# Altium footprint library uControllerTemplate2021.PcbLib: 22 footprints (part 1 of 2)
Each footprint in its own frame and in the unit in brackets; x right, y up, seen from the top. Pads: shape width x height; smd on the part's side, far side on the other; paste and mask are expansions set on the pad; w line width, h text height; cw(c..) or ccw(c..) is an arc to the next point about the centre after c.
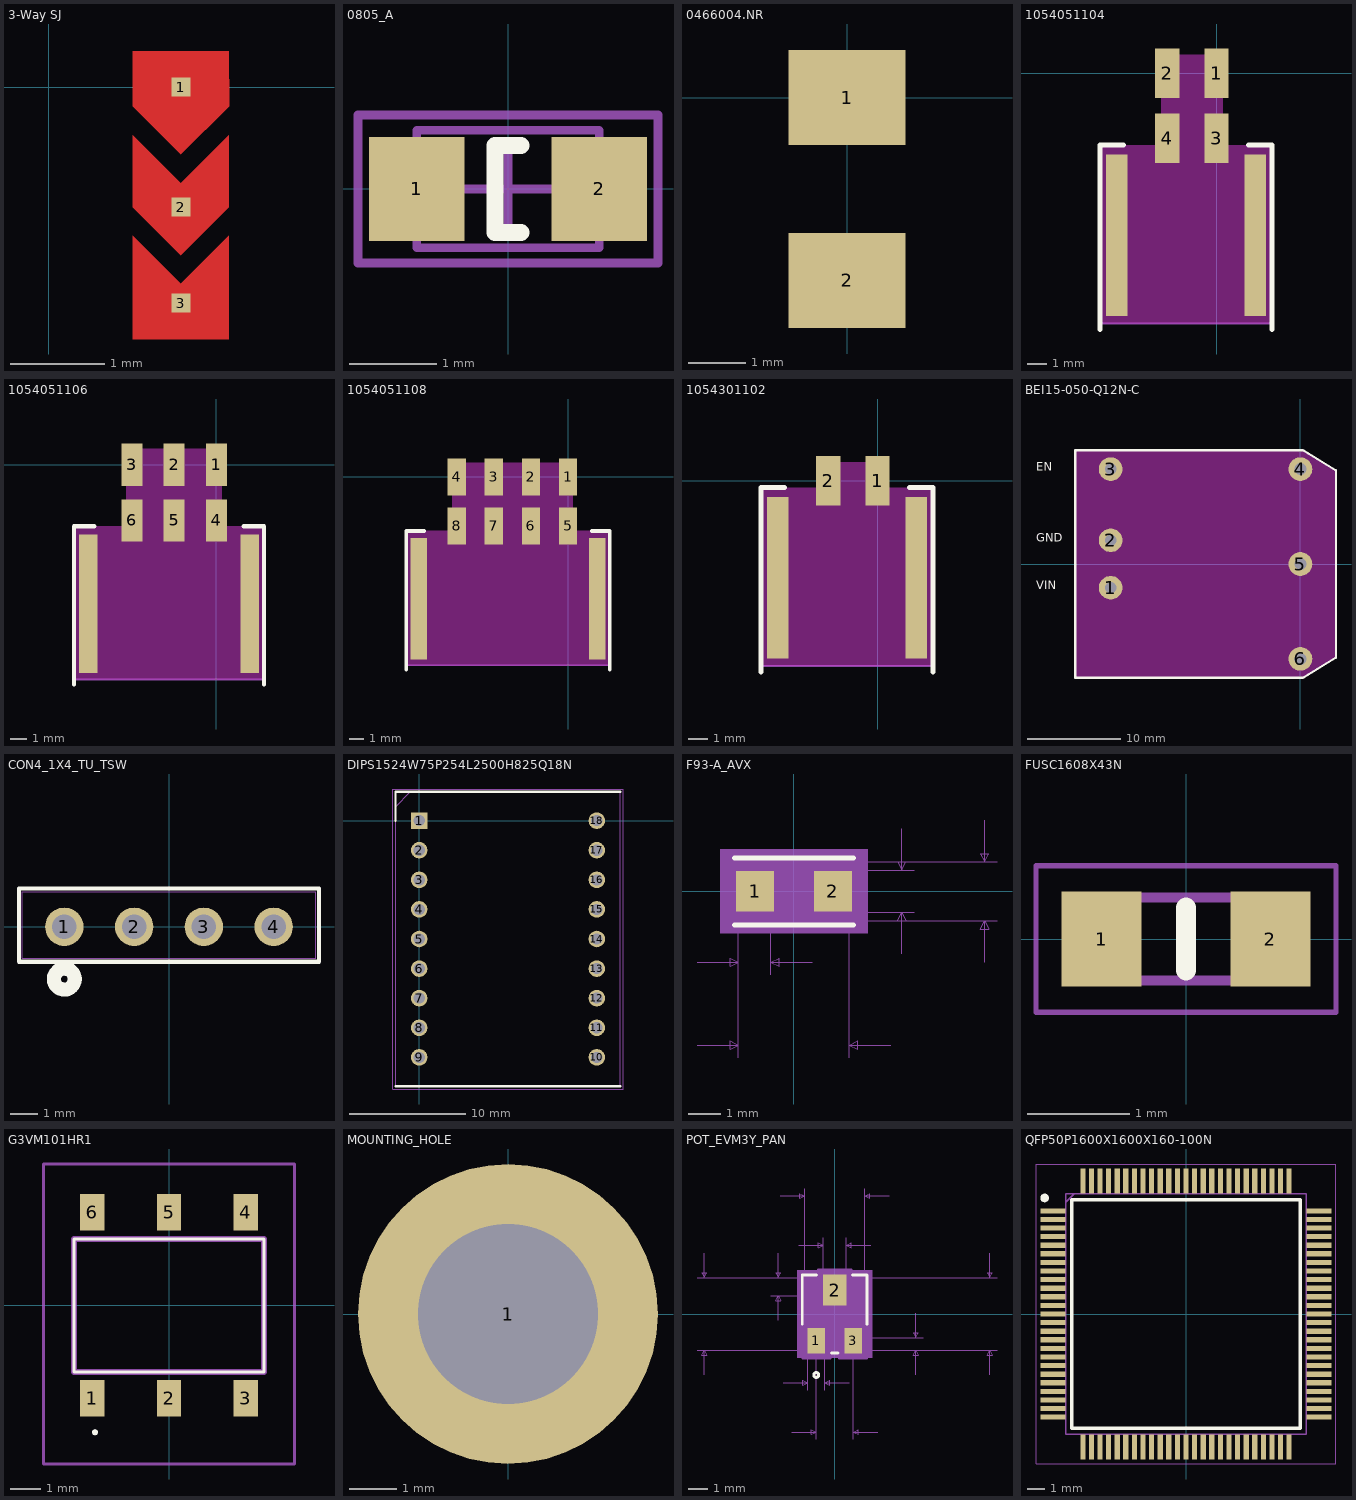
[diagram p0: the footprints below, top view; thin cyan lines are the x and y axes]

## 3-Way SJ [mm]
pads (3):
  rect 0.2x0.2 smd mask+0: 1(1.397,0) 2(1.397,-1.27) 3(1.397,-2.286)
Top Layer:
  region: 0.889,-1.575 0.889,-2.667 1.905,-2.667 1.905,-1.575 1.397,-2.083
  region: 0.889,-0.508 0.889,-1.27 1.397,-1.778 1.905,-1.27 1.905,-0.508 1.397,-1.016
  region: 0.889,-0.508
  pour cut-out: 0.889,-0.508
  pour cut-out: 0.635,0.508
  region: 0.889,0.381 0.889,-0.203 1.397,-0.711 1.905,-0.203 1.905,0.381

## 0805_A [mm] "Chip LED, 2-Leads, Body 2.0x1.3mm, IPC Medium Density"
height 0.8
pads (2):
  rect 1.1x1.2 smd: 1(-1.05,0) 2(1.05,0)
Top Overlay:
  lines w0.2: 0.15,-0.5 -0.15,-0.5 -0.15,0.5 0.15,0.5
Mechanical 13:
  lines w0.1: -1.05,-0.675 -1.05,0.675 1.05,0.675 1.05,-0.675 -1.05,-0.675
Mechanical 15:
  lines w0.1: -0.5,0 0.5,0 ; 0,-0.5 0,0.5 ; -1.725,-0.85 -1.725,0.85 1.725,0.85 1.725,-0.85 -1.725,-0.85
3D body "WL-SMCW_0805_LED.stp": height 0.68, standoff -0.02, extent -1,-0.625 1,0.625

## 0466004.NR [mil] "FUSE BOARD MNT 4A 32VAC/VDC 1206"
pads (2):
  rect 80x65 smd: 1(0,0) 2(0,-125)
3D body: height 23, standoff 0, extent -30,-125 30,0

## 1054051104 [mm] "Nano-Fit Right-Angle Header, Surface Mount, 2.50mm Pitch, Dual Row, 4 Circuits, 0.76µm Tin (Sn) Plating, Black, Glow-Wire Capable"
pads (6):
  rect 1.24x2.5 smd: 1(0,0) 2(-2.5,0) 3(0,-3.3) 4(-2.5,-3.3)
  rect 1.1x8.2 smd: ""(-5.07,-8.23) ""(1.97,-8.23)
Top Overlay:
  lines w0.254: -5.92,-13 -5.92,-3.64 -4.72,-3.64 ; 1.62,-3.64 2.82,-3.64 2.82,-13
Keep-Out Layer:
  region: 2.82,-12.7 -5.92,-12.7 -5.92,-3.64 -2.82,-3.64 -2.82,0.95 0.32,0.95 0.32,-3.64 2.82,-3.64
Mechanical 1:
  lines w0.1: -5.92,-12.7 2.82,-12.7
  text "PCB EDGE" at -3.466,-12.5 h0.5
3D body "1054051304.stp": height 9.5, standoff 0.01, extent -5.895,-14.173 2.845,0.567

## 1054051106 [mm] "Nano-Fit Right-Angle Header, Surface Mount, 2.50mm Pitch, Dual Row, 6 Circuits, 0.76µm Tin (Sn) Plating, Black, Glow-Wire Capable"
pads (8):
  rect 1.24x2.5 smd: 1(0,0) 2(-2.5,0) 3(-5,0) 4(0,-3.3) 5(-2.5,-3.3) 6(-5,-3.3)
  rect 1.1x8.2 smd: ""(-7.57,-8.23) ""(1.97,-8.23)
Top Overlay:
  lines w0.254: -8.42,-13 -8.42,-3.64 -7.22,-3.64 ; 1.62,-3.64 2.82,-3.64 2.82,-13
Keep-Out Layer:
  region: 2.82,-12.7 -8.42,-12.7 -8.42,-3.64 -5.32,-3.64 -5.32,0.95 0.32,0.95 0.32,-3.64 2.82,-3.64
Mechanical 1:
  lines w0.1: -8.42,-12.7 2.82,-12.7
  text "PCB EDGE" at -4.716,-12.5 h0.5
3D body "1054051306.stp": height 9.5, standoff 0.01, extent -8.421,-14.173 2.819,0.567

## 1054051108 [mm] "Nano-Fit Right-Angle Header, Surface Mount, 2.50mm Pitch, Dual Row, 8 Circuits, 0.76µm Tin (Sn) Plating, Black, Glow-Wire Capable"
pads (10):
  rect 1.24x2.5 smd: 1(0,0) 2(-2.5,0) 3(-5,0) 4(-7.5,0) 5(0,-3.3) 6(-2.5,-3.3) 7(-5,-3.3) 8(-7.5,-3.3)
  rect 1.1x8.2 smd: ""(-10.07,-8.23) ""(1.97,-8.23)
Top Overlay:
  lines w0.254: -10.92,-13 -10.92,-3.64 -9.72,-3.64 ; 1.62,-3.64 2.82,-3.64 2.82,-13
Keep-Out Layer:
  region: 2.82,-12.7 -10.92,-12.7 -10.92,-3.64 -7.82,-3.64 -7.82,0.95 0.32,0.95 0.32,-3.64 2.82,-3.64
Mechanical 1:
  lines w0.1: -10.92,-12.7 2.82,-12.7
  text "PCB EDGE" at -5.966,-12.5 h0.5
3D body "1054051308.stp": height 9.5, standoff 0.01, extent -10.909,-14.173 2.831,0.567

## 1054301102 [mm] "Nano-Fit Right-Angle Header, Surface Mount, 2.50mm Pitch, Single Row, 2 Circuits, 0.76µm Tin (Sn) Plating, Black, Glow-Wire Capable"
pads (4):
  rect 1.24x2.5 smd: 1(0,0) 2(-2.5,0)
  rect 1.1x8.2 smd: ""(-5.07,-4.93) ""(1.97,-4.93)
Top Overlay:
  lines w0.254: -5.92,-9.7 -5.92,-0.34 -4.72,-0.34 ; 1.62,-0.34 2.82,-0.34 2.82,-9.7
Keep-Out Layer:
  region: 2.82,-9.4 -5.92,-9.4 -5.92,-0.34 -2.82,-0.34 -2.82,0.95 0.32,0.95 0.32,-0.34 2.82,-0.34
Mechanical 1:
  lines w0.1: -5.92,-9.4 2.82,-9.4
  text "PCB EDGE" at -3.466,-9.2 h0.5
3D body "1054301102.stp": height 6.95, standoff -0.04, extent -5.921,-10.871 2.819,0.559

## BEI15-050-Q12N-C [mm] "Isolated Module DC DC Converter 2 Output 5V -5V 1.5A, 1.5A 9V - 36V Input"
pads (6):
  round 2.54 hole 1.27: 1(-20.32,-2.54) 2(-20.32,2.54) 3(-20.32,10.16) 4(0,10.16) 5(0,0) 6(0,-10.16)
Top Overlay:
  lines w0.254: -24.13,-12.192 0.254,-12.192 3.81,-10.033 3.81,10.033 0.254,12.192 -24.13,12.192 -24.13,-12.192
  text "VIN" at -28.32,-3.048 h1.52
  text "EN" at -28.321,9.652 h1.52
  text "GND" at -28.321,2.049 h1.52
Keep-Out Layer:
  region: -24.13,12.192 0.254,12.192 3.81,10.033 3.81,-10.033 0.254,-12.192 -24.13,-12.192
3D body "BEI15-050-Q12N-C.STEP": height 8.02, standoff -6.35, extent -24.13,-12.192 3.81,12.192

## CON4_1X4_TU_TSW [mil]
pads (4):
  round 55 hole 35 mask+0: 1(-150,0) 2(-50,0) 3(50,0) 4(150,0)
Top Overlay:
  circle w20: c-150,-75 r15
  lines w6: -215,-50 215,-50 215,55 -215,55 -215,-50
Bottom Overlay:
  circle w20: c-150,-75 r15
Mechanical 13:
  circle w0: c-150,0 r10
  lines w1: -210,-45 210,-45 210,50 -210,50 -210,-45
3D body "CON4_1X4_TU_TSW.step": height 500, standoff -200, extent -199.99,-49.99 200.01,50.01
3D body: height 10, standoff 0, extent 0,0 10,10

## DIPS1524W75P254L2500H825Q18N [mm]
pads (18):
  rect 1.425x1.425 hole 0.95: 1(0,0)
  round 1.425 hole 0.95: 2(0,-2.54) 3(0,-5.08) 4(0,-7.62) 5(0,-10.16) 6(0,-12.7) 7(0,-15.24) 8(0,-17.78) 9(0,-20.32) 10(15.24,-20.32) 11(15.24,-17.78) 12(15.24,-15.24) 13(15.24,-12.7) 14(15.24,-10.16) 15(15.24,-7.62) 16(15.24,-5.08) 17(15.24,-2.54) 18(15.24,0)
Top Overlay:
  lines w0.2: -2.03,-22.785 17.27,-22.785 ; -2.03,0 -2.03,2.465 17.27,2.465
Mechanical 13:
  lines w0.1: -2.03,1.195 -0.76,2.465 ; -2.03,-22.785 -2.03,2.465 17.27,2.465 17.27,-22.785 -2.03,-22.785
Mechanical 15:
  lines w0.05: -2.28,-23.035 -2.28,2.715 17.52,2.715 17.52,-23.035 -2.28,-23.035
3D body: height 0, standoff -2, extent -0.266,-20.578 0.232,-20.079
3D body: height 0, standoff -2, extent -0.266,-18.038 0.232,-17.539
3D body: height 0, standoff -2, extent -0.266,-15.498 0.232,-14.999
3D body: height 0, standoff -2, extent -0.266,-12.958 0.232,-12.459
3D body: height 0, standoff -2, extent -0.266,-10.418 0.232,-9.919
3D body: height 0, standoff -2, extent -0.266,-7.878 0.232,-7.379
3D body: height 0, standoff -2, extent -0.266,-5.338 0.232,-4.839
3D body: height 0, standoff -2, extent -0.266,-2.798 0.232,-2.299
3D body: height 0, standoff -2, extent -0.266,-0.258 0.232,0.241
3D body: height 0, standoff -2, extent 14.974,-20.578 15.472,-20.079
3D body: height 0, standoff -2, extent 14.974,-18.038 15.472,-17.539
3D body: height 0, standoff -2, extent 14.974,-15.498 15.472,-14.999
3D body: height 0, standoff -2, extent 14.974,-12.958 15.472,-12.459
3D body: height 0, standoff -2, extent 14.974,-10.418 15.472,-9.919
3D body: height 0, standoff -2, extent 14.974,-7.878 15.472,-7.379
3D body: height 0, standoff -2, extent 14.974,-2.798 15.472,-2.299
3D body: height 0, standoff -2, extent 14.974,-0.258 15.472,0.241
3D body: height 0, standoff -2, extent 14.992,-5.329 15.49,-4.83
3D body: height 0.25, standoff 0, extent 19.406,-8.128 19.406,-8.128
3D body: height 0.25, standoff 0, extent 0,0 0,0
3D body: height 8, standoff 0, extent -2.032,-22.784 17.272,2.464

## F93-A_AVX [mil]
pads (2):
  rect 45.98x49 smd paste+0 mask+0: 1(-47.01,0) 2(47.01,0)
Top Overlay:
  lines w6: -72,-40.5 72,-40.5 ; -72,40.5 72,40.5
Mechanical 5:
  region: 89,-50.5 -89,-50.5 -89,50.5 89,50.5
Mechanical 7:
  lines w1: -117,-185.5 -67,-185.5 ; -117,-85.5 -67,-85.5 ; -67,-200.5 -67,0 -67,-100.5 ; -28,-100.5 -28,0 ; 22,-85.5 -28,-85.5 ; 67,-200.5 67,0 ; 80,-35.5 245,-35.5 ; 80,-25.5 145,-25.5 ; 80,25.5 145,25.5 ; 80,35.5 245,35.5 ; 117,-185.5 67,-185.5 ; 130,-75.5 130,-25.5 ; 130,75.5 130,25.5 ; 230,-85.5 230,-35.5 ; 230,85.5 230,35.5 ; -67,-185.5 -77,-180.5 -77,-190.5 -67,-185.5 ; -67,-85.5 -77,-80.5 -77,-90.5 -67,-85.5 ; -28,-85.5 -18,-80.5 -18,-90.5 -28,-85.5 ; 67,-185.5 77,-180.5 77,-190.5 67,-185.5 ; 130,-25.5 125,-35.5 135,-35.5 130,-25.5 ; 130,25.5 125,35.5 135,35.5 130,25.5 ; 230,-35.5 225,-45.5 235,-45.5 230,-35.5 ; 230,35.5 225,45.5 235,45.5 230,35.5
  text "Default Padstyle: RX45p98Y49D0T" at -387.5,-310.5 h50
  text "Alt 1 Padstyle: OX60Y90D30P" at -337.5,-385.5 h50
  text "Alt 2 Padstyle: OX90Y60D30P" at -337.5,-460.5 h50
  text "0.051in/1.295mm" at 150,-12.5 h25
  text "0.071in/1.803mm" at 250,-12.5 h25
  text "0.134in/3.404mm" at -93.75,-230.5 h25
  text "0.039in/0.991mm" at -141.25,-130.5 h25
Mechanical 13:
  lines w1: -67,-35.5 67,-35.5 67,35.5 -67,35.5 -67,-35.5
Mechanical 15:
  region: -71,-28.5 -74,-28.5 -74,28.5 -71,28.5 -71,39.5 71,39.5 71,28.5 74,28.5 74,-28.5 71,-28.5 71,-39.5 -71,-39.5
  lines w6: -74,-28.5 -74,28.5 -71,28.5 -71,39.5 71,39.5 71,28.5 74,28.5 74,-28.5 71,-28.5 71,-39.5 -71,-39.5 -71,-28.5 -74,-28.5
3D body: height 10, standoff 0, extent 0,0 10,10

## FUSC1608X43N [mm]
pads (2):
  rect 0.78x0.93 smd: 1(-0.825,0) 2(0.825,0)
Top Overlay:
  lines w0.2: 0,-0.306 0,0.306
Mechanical 13:
  lines w0.1: -0.8,-0.406 0.8,-0.406 0.8,0.406 -0.8,0.406 -0.8,-0.406
Mechanical 15:
  lines w0.05: -1.465,-0.715 1.465,-0.715 1.465,0.715 -1.465,0.715 -1.465,-0.715
3D body "046701.5NR.stp": height 0.43, standoff 0, extent -0.8,-0.406 0.8,0.406

## G3VM101HR1 [mm]
pads (6):
  rect 0.8x1.2 smd: 1(-2.54,-3.075) 2(0,-3.075) 3(2.54,-3.075) 4(2.54,3.075) 5(0,3.075) 6(-2.54,3.075)
Top Overlay:
  lines w0.1: -3.15,-2.2 3.15,-2.2 3.15,2.2 -3.15,2.2 -3.15,-2.2 ; -2.5,-4.2 cw(c-2.45,-4.2) -2.4,-4.2 cw(c-2.45,-4.2) -2.5,-4.2
Mechanical 13:
  lines w0.2: -3.15,-2.2 3.15,-2.2 3.15,2.2 -3.15,2.2 -3.15,-2.2
Mechanical 15:
  lines w0.1: -4.15,-5.25 4.15,-5.25 4.15,4.675 -4.15,4.675 -4.15,-5.25
3D body "SOP254P700X210-6N.step": height 2.1, standoff 0, extent -3.3,-3.5 3.3,3.5

## MOUNTING_HOLE [mm] "Mounting Hole for 1/4\"-20 Thread Size, 1-1/8\" Long Black-Oxide Alloy Steel Socket Head Screw"
pads (1):
  round 6.35 hole 3.81: 1(0,0)

## POT_EVM3Y_PAN [mil]
pads (3):
  rect 35x52 smd paste+0 mask+0: 1(-37.5,-54) 3(37.5,-54)
  rect 47x63 smd paste+0 mask+0: 2(0,48.5)
Top Overlay:
  circle w6: c-37.5,-124 r5
  lines w6: -66,-20.89 -66,79 -36.6,79 ; -6.9,-79 6.9,-79 ; 36.6,79 66,79 66,-20.89
Mechanical 5:
  region: -76,89 76,89 76,-89 -76,-89
Mechanical 7:
  lines w1: -280,-74 0,-74 ; -280,74 0,74 -130,74 ; -265,-124 -265,-74 ; -265,124 -265,74 ; -130,37 0,37 ; -115,-13 -115,37 ; -115,124 -115,74 ; -111,240 -61,240 ; -105,-140 -55,-140 ; -87.5,-240 -37.5,-240 ; -73.5,140 -23.5,140 ; -61,74 -61,255 ; -55,-155 -55,-74 ; -37.5,-255 -37.5,-74 ; -23.5,74 -23.5,155 ; -20,-155 -20,-74 ; 23.5,74 23.5,155 ; 30,-140 -20,-140 ; 37.5,-255 37.5,-74 180,-74 ; 37.5,-48 180,-48 ; 61,-74 330,-74 ; 61,255 61,74 330,74 ; 73.5,140 23.5,140 ; 87.5,-240 37.5,-240 ; 111,240 61,240 ; 165,-124 165,-74 ; 165,2 165,-48 ; 315,-124 315,-74 ; 315,124 315,74 ; -265,-74 -270,-84 -260,-84 -265,-74 ; -265,74 -270,84 -260,84 -265,74 ; -115,37 -120,27 -110,27 -115,37 ; -115,74 -120,84 -110,84 -115,74 ; -61,240 -71,245 -71,235 -61,240 ; -55,-140 -65,-135 -65,-145 -55,-140 ; -37.5,-240 -47.5,-235 -47.5,-245 -37.5,-240 ; -23.5,140 -33.5,145 -33.5,135 -23.5,140 ; -20,-140 -10,-135 -10,-145 -20,-140 ; 23.5,140 33.5,145 33.5,135 23.5,140 ; 37.5,-240 47.5,-235 47.5,-245 37.5,-240 ; 61,240 71,245 71,235 61,240 ; 165,-74 160,-84 170,-84 165,-74 ; 165,-48 160,-38 170,-38 165,-48 ; 315,-74 310,-84 320,-84 315,-74 ; 315,74 310,84 320,84 315,74
  text "Default Padstyle: RX35Y52D0T" at -350,-424 h50
  text "Center Pin Padstyle: RX47Y63D0T" at -387.5,-499 h50
  text "Alt 1 Padstyle: OX60Y90D30P" at -337.5,-574 h50
  text "Alt 2 Padstyle: OX90Y60D30P" at -337.5,-649 h50
  text "0.122in/3.099mm" at -93.75,260 h25
  text "0.075in/1.905mm" at -93.75,-285 h25
  text "0.047in/1.194mm" at -93.75,160 h25
  text "0.148in/3.759mm" at 335,-12.5 h25
  text "0.035in/0.889mm" at -131.25,-185 h25
  text "0.148in/3.759mm" at -472.5,-12.5 h25
  text "0.026in/0.66mm" at 185,-66.5 h25
  text "0.037in/0.94mm" at -310,36 h25
Mechanical 13:
  circle w0: c-37.5,-64 r5
  circle w0: c0,0 r45.75
  lines w1: -61,-74 -61,74 61,74 61,-74 -61,-74 ; -55,-74 -20,-74 -55,-74 ; -36.6,-7.62 -36.6,7.62 -7.62,7.62 -7.62,36.6 7.62,36.6 7.62,7.62 36.6,7.62 36.6,-7.62 7.62,-7.62 7.62,-36.6 -7.62,-36.6 -7.62,-7.62 -36.6,-7.62 ; -23.5,74 23.5,74 -23.5,74 ; 20,-74 55,-74 20,-74
Mechanical 15:
  region: -65,-84 -65,84 -33.5,84 -33.5,90 33.5,90 33.5,84 65,84 65,-84 65,-90 10,-90 10,-84 -10,-84 -10,-90 -65,-90
  lines w6: -65,-90 -10,-90 -10,-84 10,-84 10,-90 65,-90 65,-84 65,84 33.5,84 33.5,90 -33.5,90 -33.5,84 -65,84 -65,-84 -65,-90
3D body: height 10, standoff 0, extent 0,0 10,10

## QFP50P1600X1600X160-100N [mm]
pads (100):
  rect 1.475x0.3 smd: 1(-7.738,6) 2(-7.738,5.5) 3(-7.738,5) 4(-7.738,4.5) 5(-7.738,4) 6(-7.738,3.5) 7(-7.738,3) 8(-7.738,2.5) 9(-7.738,2) 10(-7.738,1.5) 11(-7.738,1) 12(-7.738,0.5) 13(-7.738,0) 14(-7.738,-0.5) 15(-7.738,-1) 16(-7.738,-1.5) 17(-7.738,-2) 18(-7.738,-2.5) 19(-7.738,-3) 20(-7.738,-3.5) 21(-7.738,-4) 22(-7.738,-4.5) 23(-7.738,-5) 24(-7.738,-5.5) 25(-7.738,-6) 51(7.738,-6) 52(7.738,-5.5) 53(7.738,-5) 54(7.738,-4.5) 55(7.738,-4) 56(7.738,-3.5) 57(7.738,-3) 58(7.738,-2.5) 59(7.738,-2) 60(7.738,-1.5) 61(7.738,-1) 62(7.738,-0.5) 63(7.738,0) 64(7.738,0.5) 65(7.738,1) 66(7.738,1.5) 67(7.738,2) 68(7.738,2.5) 69(7.738,3) 70(7.738,3.5) 71(7.738,4) 72(7.738,4.5) 73(7.738,5) 74(7.738,5.5) 75(7.738,6)
  rect 0.3x1.475 smd: 26(-6,-7.738) 27(-5.5,-7.738) 28(-5,-7.738) 29(-4.5,-7.738) 30(-4,-7.738) 31(-3.5,-7.738) 32(-3,-7.738) 33(-2.5,-7.738) 34(-2,-7.738) 35(-1.5,-7.738) 36(-1,-7.738) 37(-0.5,-7.738) 38(0,-7.738) 39(0.5,-7.738) 40(1,-7.738) 41(1.5,-7.738) 42(2,-7.738) 43(2.5,-7.738) 44(3,-7.738) 45(3.5,-7.738) 46(4,-7.738) 47(4.5,-7.738) 48(5,-7.738) 49(5.5,-7.738) 50(6,-7.738) 76(6,7.738) 77(5.5,7.738) 78(5,7.738) 79(4.5,7.738) 80(4,7.738) 81(3.5,7.738) 82(3,7.738) 83(2.5,7.738) 84(2,7.738) 85(1.5,7.738) 86(1,7.738) 87(0.5,7.738) 88(0,7.738) 89(-0.5,7.738) 90(-1,7.738) 91(-1.5,7.738) 92(-2,7.738) 93(-2.5,7.738) 94(-3,7.738) 95(-3.5,7.738) 96(-4,7.738) 97(-4.5,7.738) 98(-5,7.738) 99(-5.5,7.738) 100(-6,7.738)
Top Overlay:
  circle w0.25: c-8.225,6.75 r0.125
  lines w0.2: -6.65,-6.65 -6.65,6.65 6.65,6.65 6.65,-6.65 -6.65,-6.65
Mechanical 13:
  lines w0.1: -7,6.5 -6.5,7 ; -7,-7 -7,7 7,7 7,-7 -7,-7
Mechanical 15:
  lines w0.05: -8.725,-8.725 -8.725,8.725 8.725,8.725 8.725,-8.725 -8.725,-8.725
3D body "STM32F469VGT6.stp": height 1.6, standoff 0, extent -8,-8 8,8